# Altium footprint library LC-TO-220-5 .PcbLib: 1 footprints
Each footprint in its own frame and in the unit in brackets; x right, y up, seen from the top. Pads: shape width x height; smd on the part's side, far side on the other; paste and mask are expansions set on the pad; w line width, h text height; cw(c..) or ccw(c..) is an arc to the next point about the centre after c.
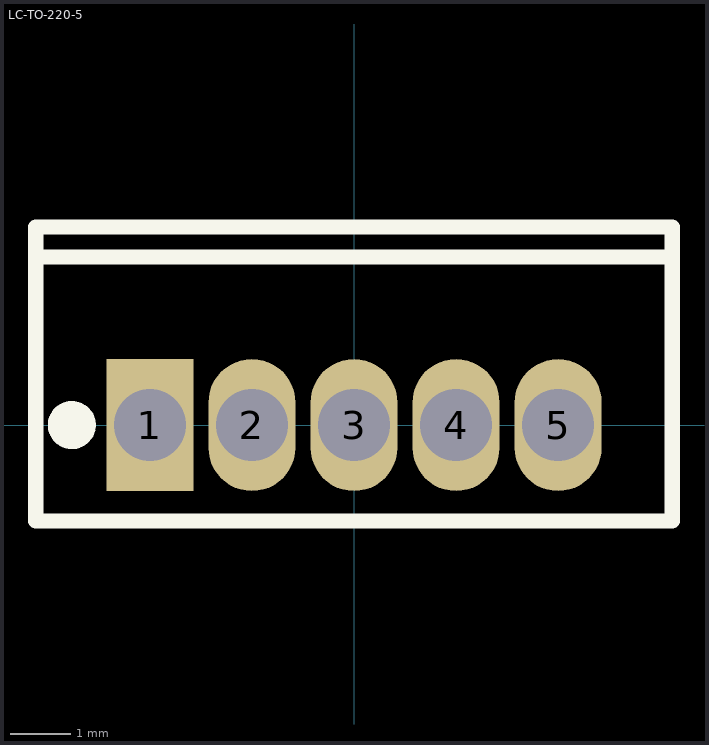
[diagram p0: the footprint, top view; thin cyan lines are the x and y axes]

## LC-TO-220-5 [mm]
pads (5):
  rect 1.45x2.2 hole 1.2 mask+0.051: 1(-3.4,0)
  oval 1.45x2.2 hole 1.2 mask+0.051: 2(-1.7,0) 3(0,0) 4(1.7,0) 5(3.4,0)
Top Overlay:
  circle w0.4: c-4.7,0 r0.2
  lines w0.254: -5.2,2.8 5.3,2.8 ; -5.3,-1.6 -5.3,3.3 5.3,3.3 5.3,-1.6 -5.3,-1.6